# EAGLE library part R-ARRAY-4 (library drag-rlcd)
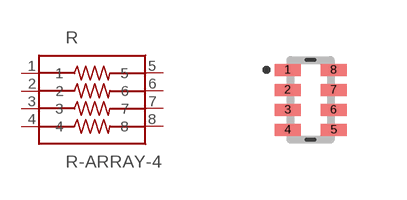
[diagram p0: symbol with the pads of R-ARRAY-4; footprint R-ARRAY-4]

Designator prefix R

## R-ARRAY-4  [R-ARRAY-4]
1  1
2  2
3  3
4  4
5  5
6  6
7  7
8  8

## Footprint R-ARRAY-4 (pad centres in mm)
smd 0.65 x 0.3: 1 -0.575,0.75; 2 -0.575,0.25; 3 -0.575,-0.25; 4 -0.575,-0.75; 5 0.575,-0.75; 6 0.575,-0.25; 7 0.575,0.25; 8 0.575,0.75